# Altium schematic symbol library Adapter_SchematicLib.SchLib: 11 symbols
Pins are listed as number, name and electrical type; pins without a type are passive.

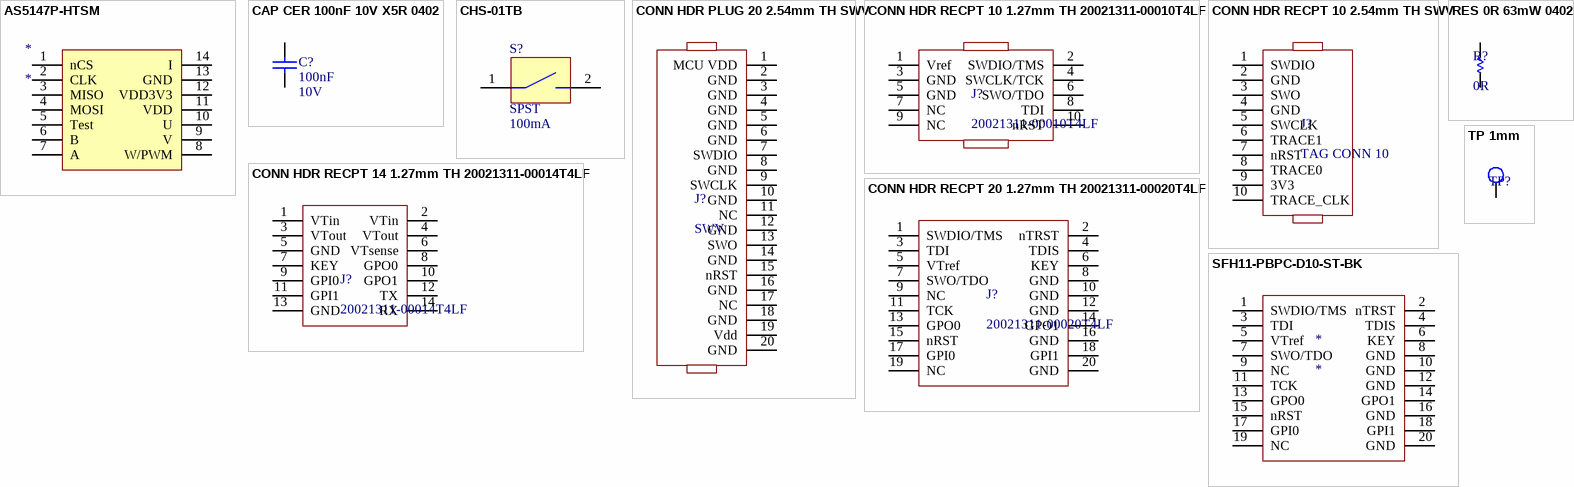
[diagram p0: symbols AS5147P-HTSM to TP 1mm]

## AS5147P-HTSM
designator *
Rotary Position Sensor 5.5V/3.6V Digital Output Automotive 14-Pin TSSOP T/R; Manufacturer: ams; Manufacturer Part Number: AS5147P-HTSM; Encoder Type: Magnetic; Detent: No; Output Type: PWM,Quadrature,Incremental,Commutation,SPI; Supplier 1: Digi-Key; RoHS: Yes; Category: Integrated Circuits (ICs); Stock 1: 147; Pricing 1: 1=15.84000, 5=10.28400, 10=9.25600, 25=8.22800, 50=7.61080, 100=6.58240 (USD); Mount: Surface Mount; Termination: SMD/SMT; Built in Switch: No; Lead Free: Lead Free; RoHS Compliant: Yes; ComponentLink1URL: http://ams.com/documents/20143/36005/AS5147P_FS000142_1-00.pdf?src-supplier=Digi-Key; ComponentLink1Description: http://ams.com/documents/20143/36005/AS5147P_FS000142_1-00.pdf?src-supplier=Digi-Key; ComponentLink2URL: https://ams.com/documents/20143/36005/AS5147P_FS000142_1-00.pdf?src-supplier=Digi-Key; ComponentLink2Description: https://ams.com/documents/20143/36005/AS5147P_FS000142_1-00.pdf?src-supplier=Digi-Key; ComponentLink3URL: http://ams.com/eng/content/download/752969/1908315/394215?src-supplier=Digi-Key; ComponentLink3Description: http://ams.com/eng/content/download/752969/1908315/394215?src-supplier=Digi-Key; Supplier Part Number 1: AS5147P-HTSMCT-ND
pins: 1 nCS, 2 CLK, 3 MISO, 4 MOSI, 5 Test, 6 B, 7 A, 8 W/PWM, 9 V, 10 U, 11 VDD, 12 VDD3V3, 13 GND, 14 I

## CAP CER 100nF 10V X5R 0402
designator C?, comment 100nF  Voltage Rating: 10V
Ceramic Capacitor, Multilayer, Ceramic, 10V, 10% +Tol, 10% -Tol, X5R, 15% TC, 0.1uF, Surface Mount, 0402; Manufacturer: KEMET; Manufacturer Part Number: C0402C104K8PACTU; Dissipation Factor: 5%; Supplier 1: Digi-Key; RoHS: Yes; Category: Ceramic Capacitors; Stock 1: 81872; Pricing 1: 1=0.10000, 10=0.04200, 50=0.02280, 100=0.01870, 500=0.01332, 1000=0.01047, 2500=0.00952, 5000=0.00875 (USD); Mount: Surface Mount,PCB; Case/Package: 0402; Number of Pins: 2; Case Code (Metric): 1005; Case Code (Imperial): 0402; Contact Plating: Tin,Matte; Dielectric Material: Ceramic; Min Operating Temperature: -55°C; Max Operating Temperature: 85°C; Capacitance: 100nF; Tolerance: 10%; Packaging: Tape and Reel; Dielectric: X5R; Voltage Rating (DC): 10V; Package Quantity: 1; Series: C; Termination: SMD/SMT; Construction: Flat; Voltage: 10V; Length: 1mm; Width: 0.02inch; Height: 0.5mm; Depth: 0.5mm; Thickness: 0.022inch; Lead Pitch: 0.3mm; Radiation Hardening: No; RoHS Compliant: Yes; Lead Free: Lead Free; REACH SVHC: No SVHC; ComponentLink1URL: https://datasheet.ciiva.com/144/docfinderpartnumber-c0402c104k8pactu-144097.pdf?src-supplier=Digi-Key; ComponentLink1Description: https://datasheet.ciiva.com/144/docfinderpartnumber-c0402c104k8pactu-144097.pdf?src-supplier=Digi-Key; ComponentLink2URL: https://datasheet.ciiva.com/7747/1776086-7747440.pdf?src-supplier=Element14; ComponentLink2Description: https://datasheet.ciiva.com/7747/1776086-7747440.pdf?src-supplier=Element14; ComponentLink3URL: https://datasheet.ciiva.com/28645/1789732-28645387.pdf?src-supplier=Element14; ComponentLink3Description: https://datasheet.ciiva.com/28645/1789732-28645387.pdf?src-supplier=Element14; ComponentLink4URL: https://datasheet.ciiva.com/14588/70095383-14588187.pdf?src-supplier=Allied+Electronics; ComponentLink4Description: https://datasheet.ciiva.com/14588/70095383-14588187.pdf?src-supplier=Allied+Electronics; ComponentLink5URL: https://datasheet.ciiva.com/14595/70095383-14595064.pdf?src-supplier=Allied+Electronics; ComponentLink5Description: https://datasheet.ciiva.com/14595/70095383-14595064.pdf?src-supplier=Allied+Electronics; Supplier Part Number 1: 399-3027-1-ND
footprint c0402
pins: 1, 2

## CHS-01TB
designator S?, comment SPST  Current Rating: 100mA
Switch Slide OFF ON SPST Recessed Slide 0.1A 24VDC Gull Wing SMD Embossed T/R; Manufacturer: Nidec Copal; Manufacturer Part Number: CHS-01TB; Body Material: Polyphenylene; Max Voltage Rating (DC): 24V; Voltage Rating (DC): 6V; Number of Positions: 1; Electrical Life: 2000Cycles; Actuator Type: Slide (Standard); Pitch: 0.05inch; Washable: Yes; Supplier 1: Digi-Key; RoHS: Yes; Category: DIP Switches; Stock 1: 9188; Pricing 1: 1=0.93000, 10=0.89300, 25=0.83440, 100=0.72440, 250=0.65912, 500=0.61108 (USD); Mount: Surface Mount; Contact Material: Copper Alloy; Contact Plating: Gold; Min Operating Temperature: -40°C; Max Operating Temperature: 85°C; Throw Configuration: SPST; Termination: Gull Wing; Packaging: Tape and Reel; Series: CHS; Orientation: Vertical; Length: 0.098inch; RoHS Compliant: Yes; Lead Free: Lead Free; ComponentLink1URL: https://datasheet.ciiva.com/2863/chs-2863451.pdf?src-supplier=Digi-Key; ComponentLink1Description: https://datasheet.ciiva.com/2863/chs-2863451.pdf?src-supplier=Digi-Key; ComponentLink2URL: https://datasheet.ciiva.com/2863/chs-2863452.pdf?src-supplier=Digi-Key; ComponentLink2Description: https://datasheet.ciiva.com/2863/chs-2863452.pdf?src-supplier=Digi-Key; ComponentLink3URL: https://datasheet.ciiva.com/2863/chs-2863453.pdf?src-supplier=Digi-Key; ComponentLink3Description: https://datasheet.ciiva.com/2863/chs-2863453.pdf?src-supplier=Digi-Key; Supplier Part Number 1: 563-1004-1-ND
footprint MECH DIP 1 CHS-01TB
pins: 1, 2

## CONN HDR PLUG 20 2.54mm TH SWV
designator J?, comment SWV
Female, 20C, Straight .100"CC; No Mt. w/Center Polarizing Key; PBT, Brass, Gold Flash, 105 C; Manufacturer: Sullins; Manufacturer Part Number: SFH11-PBPC-D10-ST-BK; Number of Positions: 20; Connector Type: Header; Pitch: 0.1inch; Supplier 1: Digi-Key; RoHS: Yes; Category: Headers and Wire Housings; Stock 1: 18166; Pricing 1: 1=1.15000, 10=0.96800, 80=0.86925, 440=0.71118, 1000=0.63216, 5000=0.57070 (USD); Mount: Through Hole; Color: Black; Contact Plating: Gold; Package Quantity: 1; Number of Rows: 2; Packaging: Tray; Termination: Solder; Series: SFH11; Contact Type: Female Socket; Row Spacing: 0.1inch; Lead Free: Lead Free; RoHS Compliant: Yes; ComponentLink1URL: https://datasheet.ciiva.com/754/sfh11-pxxc-dxx-st-xx11160-c-754558.pdf?src-supplier=Digi-Key; ComponentLink1Description: https://datasheet.ciiva.com/754/sfh11-pxxc-dxx-st-xx11160-c-754558.pdf?src-supplier=Digi-Key; Supplier Part Number 1: S9197-ND
footprint CONN HDR PLUG 20 2.54 TH STLINKV2
pins: 1 MCU VDD, 2 GND, 3 GND, 4 GND, 5 GND, 6 GND, 7 SWDIO, 8 GND, 9 SWCLK, 10 GND, 11 NC, 12 GND, 13 SWO, 14 GND, 15 nRST, 16 GND, 17 NC, 18 GND, 19 Vdd, 20 GND

## CONN HDR RECPT 10 1.27mm TH 20021311-00010T4LF
designator J?, comment 20021311-00010T4LF
Dual Row 10 Position 1.27 mm Board to Board Through Hole Female Socket Connector; Manufacturer 1: Amphenol ICC / FCI; Category 1: Headers and Wire Housings; Supplier 1: Newark; Supplier Part Number 1: 38AH4107; Manufacturer Part Number 1: 20021311-00010T4LF; RoHS 1: No; Description 1: Dual Row 10 Position 1.27 mm Board to Board Through Hole Female Socket Connector; ComponentLink1URL: http://components.arrow.com/part/dataview/48963183S8522640N8314?src-supplier=Arrow+Electronics; ComponentLink1Description: http://components.arrow.com/part/dataview/48963183S8522640N8314?src-supplier=Arrow+Electronics; ComponentLink2URL: http://portal.fciconnect.com/Comergent/fci/drawing/20021311.pdf?src-supplier=Avnet; ComponentLink2Description: http://portal.fciconnect.com/Comergent/fci/drawing/20021311.pdf?src-supplier=Avnet; ComponentLink3URL: http://portal.fciconnect.com/Comergent//fci/drawing/20021311.pdf?src-supplier=Mouser; ComponentLink3Description: http://portal.fciconnect.com/Comergent//fci/drawing/20021311.pdf?src-supplier=Mouser; ComponentLink4URL: http://www.farnell.com/datasheets/1079639.pdf?src-supplier=Element14; ComponentLink4Description: http://www.farnell.com/datasheets/1079639.pdf?src-supplier=Element14; ComponentLink5URL: https://media.digikey.com/pdf/Data%20Sheets/FCI%20PDFs/Minitek%20127_Catalog.pdf?src-supplier=Digi-Key; ComponentLink5Description: https://media.digikey.com/pdf/Data%20Sheets/FCI%20PDFs/Minitek%20127_Catalog.pdf?src-supplier=Digi-Key; ComponentLink6URL: http://www.farnell.com/datasheets/2374175.pdf?src-supplier=Farnell; ComponentLink6Description: http://www.farnell.com/datasheets/2374175.pdf?src-supplier=Farnell
footprint CONN HDR PLUG 10 1.27mm JLink EDU
pins: 1 Vref, 2 SWDIO/TMS, 3 GND, 4 SWCLK/TCK, 5 GND, 6 SWO/TDO, 7 NC, 8 TDI, 9 NC, 10 nRST

## CONN HDR RECPT 10 2.54mm TH SWV
designator J?, comment TAG CONN 10
Conn Shrouded Header HDR 10 POS 2.54mm Solder ST Thru-Hole; Manufacturer: On-Shore Technology; Manufacturer Part Number: 302-S101; Number of Positions: 10; Connector Type: Male Pin; Pitch: 0.1inch; Supplier 1: Digi-Key; RoHS: Yes; Category: Connectors; Stock 1: 61558; Pricing 1: 1=0.29000, 10=0.24800, 100=0.19290, 500=0.16538, 1000=0.13781, 5000=0.11812, 10000=0.11025 (USD); Mount: Through Hole; Color: Black; Contact Plating: Gold; Number of Rows: 2; Packaging: Tray; Termination: Solder; Series: 302; Contact Type: Male Pin; Row Spacing: 0.1inch; ComponentLink1URL: https://datasheet.ciiva.com/732/302-sxxx-732946.pdf?src-supplier=Digi-Key; ComponentLink1Description: https://datasheet.ciiva.com/732/302-sxxx-732946.pdf?src-supplier=Digi-Key; Supplier Part Number 1: ED1543-ND
footprint CONN HDR RECPT 20 2.54 TH TAG CONNECT 10
pins: 1 SWDIO, 2 GND, 3 SWO, 4 GND, 5 SWCLK, 6 TRACE1, 7 nRST, 8 TRACE0, 9 3V3, 10 TRACE_CLK

## CONN HDR RECPT 14 1.27mm TH 20021311-00014T4LF
designator J?, comment 20021311-00014T4LF
1.27mm (0.05in.) pitch, Receptacle Top entry, 14 contacts; Manufacturer 1: Amphenol ICC / FCI; Category 1: Connectors; Contact Resistance: 30mR; Current Rating: 1A; Voltage Rating: 125V; Number of Positions: 14; Gender: Female; Row Spacing: 0.05inch; Supplier 1: Newark; Supplier Part Number 1: 39AJ1937; Manufacturer Part Number 1: 20021311-00014T4LF; RoHS 1: Yes; Description 1: 1.27mm (0.05in.) pitch, Receptacle Top entry, 14 contacts; Mounting Technology: Through Hole; Contact Plating: Gold; Contact Material: Copper Alloy; Color: Black; Housing Material: Plastic; Min Operating Temperature: -40°C; Max Operating Temperature: 85°C; Package Quantity: 63; Number of Rows: 2; Packaging: Rail/Tube; Connector Type: Receptacle; Termination: Solder; Max Voltage Rating (AC): 125V; Number of Contacts: 14; Orientation: Straight; Series: Minitek 127® 20021311; Contact Type: Female Socket; Length: 7.62mm; Pitch: 1.27mm; Depth: 3mm; RoHS Compliant: Yes; ComponentLink1URL: https://datasheet.ciiva.com/411/20021311-411141.pdf?src-supplier=Digi-Key; ComponentLink1Description: https://datasheet.ciiva.com/411/20021311-411141.pdf?src-supplier=Digi-Key; ComponentLink2URL: https://datasheet.ciiva.com/13874/20021311-13874918.pdf?src-supplier=Mouser; ComponentLink2Description: https://datasheet.ciiva.com/13874/20021311-13874918.pdf?src-supplier=Mouser; ComponentLink3URL: https://datasheet.ciiva.com/10135/20021311-10135351.pdf?src-supplier=Avnet; ComponentLink3Description: https://datasheet.ciiva.com/10135/20021311-10135351.pdf?src-supplier=Avnet
footprint CONN HDR PLUG 14 1.27 TH XDS110 AUX
pins: 1 VTin, 2 VTin, 3 VTout, 4 VTout, 5 GND, 6 VTsense, 7 KEY, 8 GPO0, 9 GPI0, 10 GPO1, 11 GPI1, 12 TX, 13 GND, 14 RX

## CONN HDR RECPT 20 1.27mm TH 20021311-00020T4LF
designator J?, comment 20021311-00020T4LF
Dual Row 20 Position 1.27 mm Board to Board Through Hole Female Socket Connector; Manufacturer 1: Amphenol ICC / FCI; Category 1: Connectors; Connector Type: Receptacle; Number of Positions: 20; Current Rating: 1A; Voltage Rating: 125V; Contact Resistance: 30mR; Pitch: 1.27mm; Row Spacing: 0.05inch; Supplier 1: Newark; Supplier Part Number 1: 82R8663; Manufacturer Part Number 1: 20021311-00020T4LF; RoHS 1: Yes; Description 1: Dual Row 20 Position 1.27 mm Board to Board Through Hole Female Socket Connector; Mounting Technology: Through Hole; Contact Plating: Gold; Color: Black; Contact Material: Copper Alloy,Copper; Housing Material: Plastic; Min Operating Temperature: -40°C; Max Operating Temperature: 85°C; Series: Minitek 127® 20021311; Packaging: Rail/Tube; Contact Type: Female Socket; Number of Rows: 2; Termination: Solder; Package Quantity: 45; Number of Contacts: 20; Gender: Receptacle; Orientation: Straight; Max Voltage Rating (AC): 125V; Length: 11.43mm; Depth: 3mm; Radiation Hardening: No; Reach SVHC Compliant: Yes; ComponentLink1URL: http://www.alliedelec.com/m/d/a3245b736a91ce97db4107bcd031e553.pdf?src-supplier=Allied+Electronics; ComponentLink1Description: http://www.alliedelec.com/m/d/a3245b736a91ce97db4107bcd031e553.pdf?src-supplier=Allied+Electronics; ComponentLink2URL: https://www.verical.com/server-webapp/html/getDatasheet?partID=356979&src-supplier=Verical; ComponentLink2Description: https://www.verical.com/server-webapp/html/getDatasheet?partID=356979&src-supplier=Verical; ComponentLink3URL: http://portal.fciconnect.com/Comergent/fci/drawing/20021311.pdf?src-supplier=Avnet; ComponentLink3Description: http://portal.fciconnect.com/Comergent/fci/drawing/20021311.pdf?src-supplier=Avnet; ComponentLink4URL: http://portal.fciconnect.com/Comergent//fci/drawing/20021311.pdf?src-supplier=Mouser; ComponentLink4Description: http://portal.fciconnect.com/Comergent//fci/drawing/20021311.pdf?src-supplier=Mouser; ComponentLink5URL: http://www.farnell.com/cad/1750102.pdf?src-supplier=Element14; ComponentLink5Description: http://www.farnell.com/cad/1750102.pdf?src-supplier=Element14; ComponentLink6URL: http://components.arrow.com/part/dataview/48963304S8522655N8314?src-supplier=Arrow+Electronics; ComponentLink6Description: http://components.arrow.com/part/dataview/48963304S8522655N8314?src-supplier=Arrow+Electronics; ComponentLink7URL: http://www.farnell.com/datasheets/2374175.pdf?src-supplier=Farnell; ComponentLink7Description: http://www.farnell.com/datasheets/2374175.pdf?src-supplier=Farnell; ComponentLink8URL: https://media.digikey.com/pdf/Data%20Sheets/FCI%20PDFs/Minitek%20127_Catalog.pdf?src-supplier=Digi-Key; ComponentLink8Description: https://media.digikey.com/pdf/Data%20Sheets/FCI%20PDFs/Minitek%20127_Catalog.pdf?src-supplier=Digi-Key
footprint CONN HDR PLUG 20 1.27 TH XDS110 DEBUG
pins: 1 SWDIO/TMS, 2 nTRST, 3 TDI, 4 TDIS, 5 VTref, 6 KEY, 7 SWO/TDO, 8 GND, 9 NC, 10 GND, 11 TCK, 12 GND, 13 GPO0, 14 GPO1, 15 nRST, 16 GND, 17 GPI0, 18 GPI1, 19 NC, 20 GND

## RES 0R 63mW 0402
designator R?, comment 0R
GLOVE, POLYAMIDE, L/FREE, PU, SIZE 6 - More Details; Manufacturer: Stackpole Electronics; Manufacturer Part Number: RMCF0402ZT0R00; Power Rating: 63mW; Current Rating: 1A; Working Voltage: 50V; Supplier 1: Digi-Key; RoHS: Yes; Category: Chip SMD Resistors; Stock 1: 5203223; Pricing 1: 1=0.10000, 10=0.01000, 25=0.00720, 50=0.00560, 100=0.00410, 250=0.00316, 500=0.00252, 1000=0.00186, 5000=0.00133 (USD); Mount: Surface Mount; Case/Package: 0402; Case Code (Metric): 1005; Case Code (Imperial): 0402; Contact Plating: Tin,Matte; Min Operating Temperature: -55°C; Max Operating Temperature: 155°C; Resistance: 0R; Packaging: Tape and Reel; Resistor Type: Thick Film; Number of Terminations: 2; Max Power Dissipation: 63mW; Features: Automotive AEC-Q200; Series: RMCF; Technology: THICK FILM; Construction: Rectangular; Length: 0.039inch; Width: 0.02inch; Height: 0.016inch; Depth: 0.5mm; Radiation Hardening: No; Military Standard: Not; Lead Free: Lead Free; RoHS Compliant: Yes; ComponentLink1URL: https://datasheet.ciiva.com/26835/getdatasheetpartid-409751-26835612.pdf?src-supplier=Verical; ComponentLink1Description: https://datasheet.ciiva.com/26835/getdatasheetpartid-409751-26835612.pdf?src-supplier=Verical; Supplier Part Number 1: RMCF0402ZT0R00CT-ND
footprint R0402
pins: 1, 2

## SFH11-PBPC-D10-ST-BK
designator *
Female, 20C, Straight .100"CC; No Mt. w/Center Polarizing Key; PBT, Brass, Gold Flash, 105 C; Manufacturer 1: Sullins; Manufacturer Part Number 1: SFH11-PBPC-D10-ST-BK; Category 1: Headers and Wire Housings; Number of Positions: 20; Connector Type: Header; Pitch: 0.1inch; Supplier 1: Future Electronics; Supplier Part Number 1: 5594601; RoHS 1: Yes; Description 1: Female, 20C, Straight .100"CC; No Mt. w/Center Polarizing Key; PBT, Brass, Gold Flash, 105 C; Stock 1: 17730; Pricing 1: 1=0.99000, 40=0.95500, 150=0.91000, 400=0.88000, 1500=0.81000 (USD); Mounting Technology: Through Hole; Color: Black; Contact Plating: Gold; Package Quantity: 1; Number of Rows: 2; Packaging: Tray; Termination: Solder; Series: SFH11; Contact Type: Female Socket; Row Spacing: 0.1inch; Lead Free: Lead Free; RoHS Compliant: Yes; ComponentLink1URL: https://datasheet.ciiva.com/754/sfh11-pxxc-dxx-st-xx11160-c-754558.pdf?src-supplier=Digi-Key; ComponentLink1Description: https://datasheet.ciiva.com/754/sfh11-pxxc-dxx-st-xx11160-c-754558.pdf?src-supplier=Digi-Key
pins: 1 SWDIO/TMS, 2 nTRST, 3 TDI, 4 TDIS, 5 VTref, 6 KEY, 7 SWO/TDO, 8 GND, 9 NC, 10 GND, 11 TCK, 12 GND, 13 GPO0, 14 GPO1, 15 nRST, 16 GND, 17 GPI0, 18 GPI1, 19 NC, 20 GND

## TP 1mm
designator TP?, comment 1mm  (value not drawn)
SMT testpoint
footprint TESTPOINT_SMT (testpoint smt)
pins: 1